# Altium schematic symbol library TESTPOINT.SchLib: 1 symbol
Pins are listed as number, name and electrical type; pins without a type are passive.

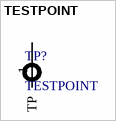
[diagram p0: symbol TESTPOINT]

## TESTPOINT
designator TP?
Test point symbol
pins: 1 TP